# EAGLE library part SSC3S900 (library my_ic)
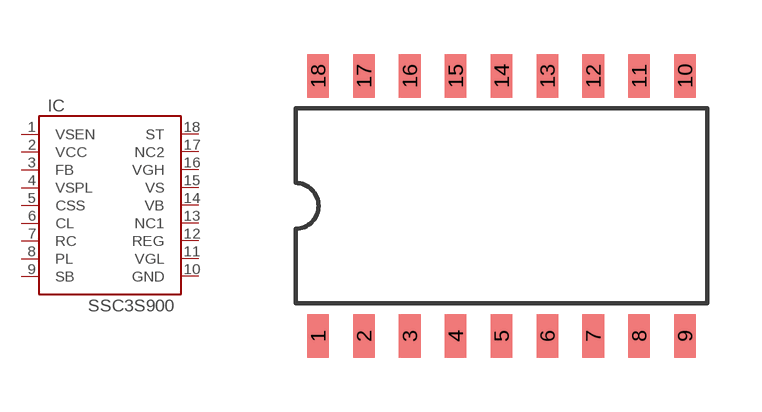
[diagram p20: symbol with the pads of SOP18; footprint SOP18]

Designator prefix IC

## SSC3S900  [SOP18]
1  VSEN  in
2  VCC  pwr
3  FB  in
4  VSPL  in
5  CSS
6  CL
7  RC  in
8  PL  in
9  SB  in
10  GND  pwr
11  VGL  out
12  REG  pwr
13  NC1  nc
14  VB  pwr
15  VS  pwr
16  VGH  out
17  NC2  nc
18  ST  pwr

## Footprint SOP18 (pad centres in mm)
smd 0.6 x 1.2: 1 -5.08,-3.6; 2 -3.81,-3.6; 3 -2.54,-3.6; 4 -1.27,-3.6; 5 0,-3.6; 6 1.27,-3.6; 7 2.54,-3.6; 8 3.81,-3.6; 9 5.08,-3.6; 10 5.08,3.6; 11 3.81,3.6; 12 2.54,3.6; 13 1.27,3.6; 14 0,3.6; 15 -1.27,3.6; 16 -2.54,3.6; 17 -3.81,3.6; 18 -5.08,3.6